# Altium footprint library PTS645.PcbLib: 1 footprints
Each footprint in its own frame and in the unit in brackets; x right, y up, seen from the top. Pads: shape width x height; smd on the part's side, far side on the other; paste and mask are expansions set on the pad; w line width, h text height; cw(c..) or ccw(c..) is an arc to the next point about the centre after c.
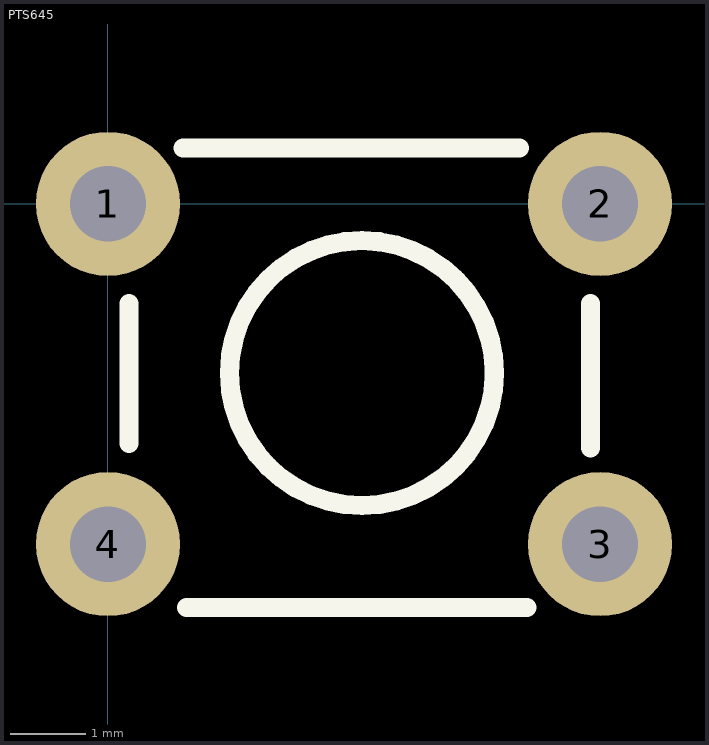
[diagram p0: the footprint, top view; thin cyan lines are the x and y axes]

## PTS645 [mil]
pads (4):
  round 75 hole 39.37: 1(0,0) 2(256,0) 3(256,-177) 4(0,-177)
Top Overlay:
  circle w10: c132.1,-88 r68.9
  lines w10: 11,-124.5 11,-52 ; 39,29 214,29 ; 41,-210 218,-210 ; 251,-127 251,-52